# Altium schematic symbol library AO3400.SchLib: 1 symbol
Pins are listed as number, name and electrical type; pins without a type are passive.

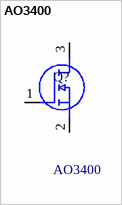
[diagram p0: symbol AO3400]

## AO3400
designator Q?
30V N-Channel MOSFET; Manufacturer_Name: Alpha & Omega Semiconductors; Geometry.Height: 1.25mm; Manufacturer_Part_Number: AO3400; Mouser Part Number: *; Mouser Price/Stock: *; Arrow Part Number: AO3400; Arrow Price/Stock: https://www.arrow.com/en/products/ao3400/alpha-and-omega-semiconductor?utm_currency=USD&region=asia; Datasheet Link: http://aosmd.com/res/data_sheets/AO3400.pdf
footprint SOT95P280X125-3N
pins: 1 G, 2 S, 3 D